# Altium footprint library PowerDI123.PcbLib: 1 footprints
Each footprint in its own frame and in the unit in brackets; x right, y up, seen from the top. Pads: shape width x height; smd on the part's side, far side on the other; paste and mask are expansions set on the pad; w line width, h text height; cw(c..) or ccw(c..) is an arc to the next point about the centre after c.
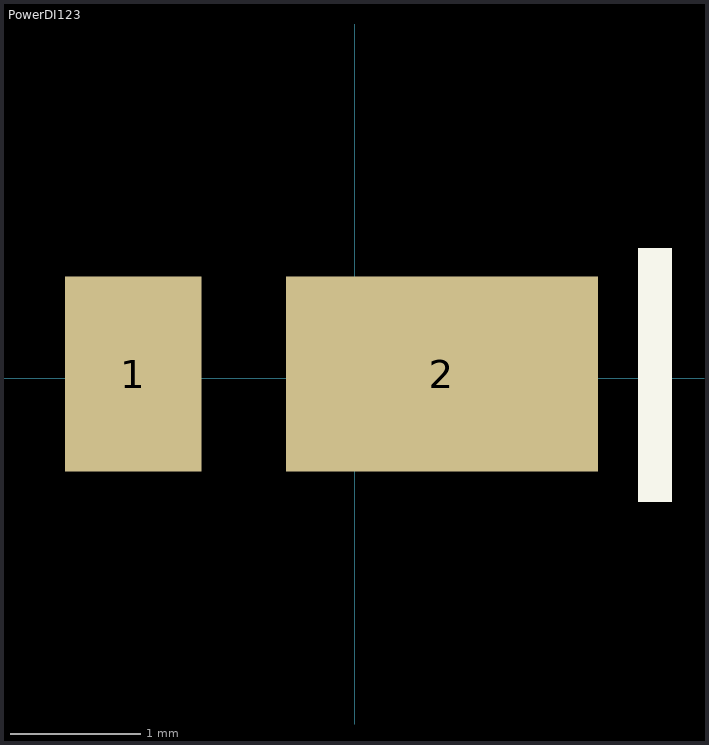
[diagram p0: the footprint, top view; thin cyan lines are the x and y axes]

## PowerDI123 [mm]
height 1
pads (2):
  rect 1.05x1.5 smd: 1(-1.706,0.034)
  rect 2.4x1.5 smd: 2(0.669,0.034)
Top Overlay:
  rectangle: 2.177,-0.95 2.441,1.005
3D body "User Library-powerdi123.step": height 1, standoff 0, extent -2.142,-0.94 1.733,0.99